# EAGLE library part MC68564 (library 68komputer)
68564 – Serial Input/Output Datasheet <http://pdf.datasheetcatalog.com/datasheet/stmicroelectronics/2337.pdf>
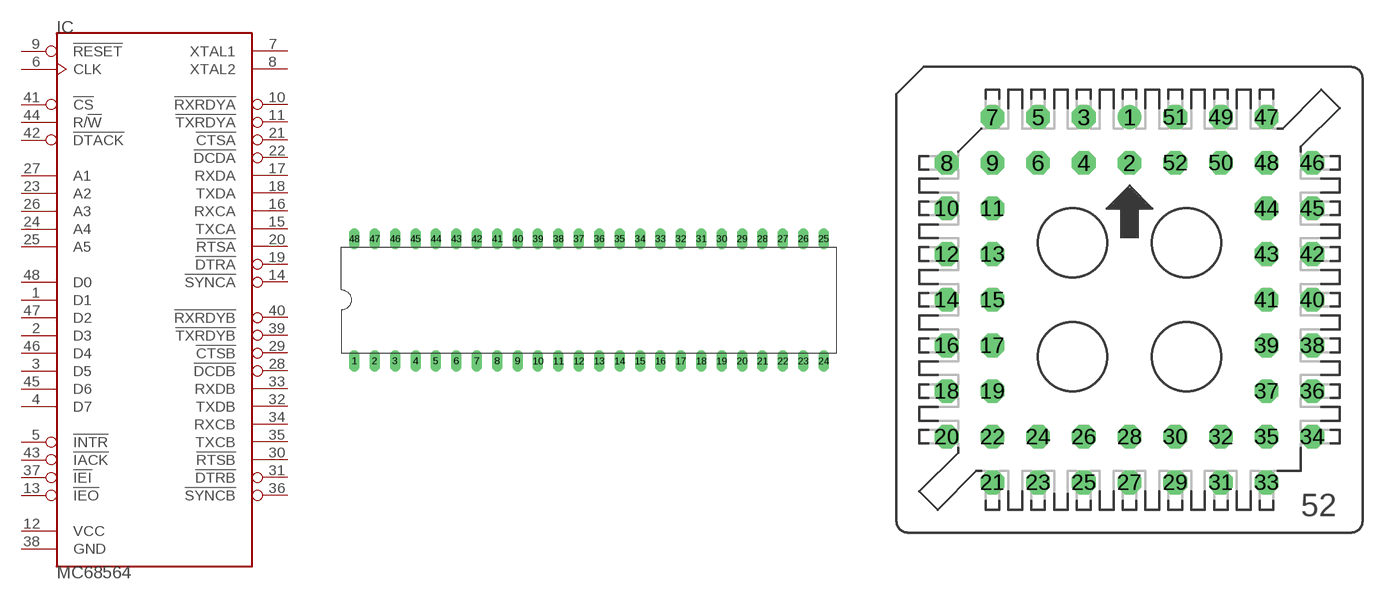
[diagram p13: symbol with the pads of DIL48; footprints DIL48, PLCC52-S]

Designator prefix IC

## MC68564DIP-48  [DIL48]
1  D1
2  D3
3  D5
4  D7
5  !INTR
6  CLK
7  XTAL1
8  XTAL2
9  !RESET
10  !RXRDYA  out
11  !TXRDYA  out
12  VCC  pwr
13  !IEO  out
14  !SYNCA
15  TXCA
16  RXCA  out
17  RXDA  in
18  TXDA  out
19  !DTRA
20  !RTSA
21  !CTSA  in
22  !DCDA  in
23  A2  in
24  A4  in
25  A5  in
26  A3  in
27  A1  in
28  !DCDB  in
29  !CTSB  in
30  !RTSB
31  !DTRB
32  TXDB  out
33  RXDB  in
34  RXCB  out
35  TXCB
36  !SYNCB
37  !IEI  in
38  GND  pwr
39  !TXRDYB  out
40  !RXRDYB  out
41  !CS  in
42  !DTACK
43  !IACK
44  R/!W!  in
45  D6
46  D4
47  D2
48  D0

## MC68564  [PLCC52-S]
1  D1
2  D3
3  D5
4  D7
6  !INTR
7  CLK
8  XTAL1
9  XTAL2
10  !RESET
11  !RXRDYA  out
12  !TXRDYA  out
13  VCC  pwr
14  !IEO  out
15  !SYNCA
16  TXCA
17  RXCA  out
18  RXDA  in
19  TXDA  out
21  !DTRA
22  !RTSA
23  !CTSA  in
24  !DCDA  in
25  A2  in
26  A4  in
28  A5  in
29  A3  in
30  A1  in
31  !DCDB  in
32  !CTSB  in
33  !RTSB
34  !DTRB
35  TXDB  out
36  RXDB  in
37  RXCB  out
38  TXCB
39  !SYNCB
40  !IEI  in
41  GND  pwr
42  !TXRDYB  out
43  !RXRDYB  out
44  !CS  in
45  !DTACK
47  !IACK
48  R/!W!  in
49  D6
50  D4
51  D2
52  D0

## Footprint DIL48 (pad centres in mm)
Dual In Line
drill 0.813 long: 1 -29.21,-7.62; 2 -26.67,-7.62; 3 -24.13,-7.62; 4 -21.59,-7.62; 5 -19.05,-7.62; 6 -16.51,-7.62; 7 -13.97,-7.62; 8 -11.43,-7.62; 9 -8.89,-7.62; 10 -6.35,-7.62; 11 -3.81,-7.62; 12 -1.27,-7.62; 13 1.27,-7.62; 14 3.81,-7.62; 15 6.35,-7.62; 16 8.89,-7.62; 17 11.43,-7.62; 18 13.97,-7.62; 19 16.51,-7.62; 20 19.05,-7.62; 21 21.59,-7.62; 22 24.13,-7.62; 23 26.67,-7.62; 24 29.21,-7.62; 25 29.21,7.62; 26 26.67,7.62; 27 24.13,7.62; 28 21.59,7.62; 29 19.05,7.62; 30 16.51,7.62; 31 13.97,7.62; 32 11.43,7.62; 33 8.89,7.62; 34 6.35,7.62; 35 3.81,7.62; 36 1.27,7.62; 37 -1.27,7.62; 38 -3.81,7.62; 39 -6.35,7.62; 40 -8.89,7.62; 41 -11.43,7.62; 42 -13.97,7.62; 43 -16.51,7.62; 44 -19.05,7.62; 45 -21.59,7.62; 46 -24.13,7.62; 47 -26.67,7.62; 48 -29.21,7.62

## Footprint PLCC52-S (pad centres in mm)
PLCC Socked
drill 0.813: 1 0,10.16
drill 0.813 octagon: 2 0,7.62; 3 -2.54,10.16; 4 -2.54,7.62; 5 -5.08,10.16; 6 -5.08,7.62; 7 -7.62,10.16; 8 -10.16,7.62; 9 -7.62,7.62; 10 -10.16,5.08; 11 -7.62,5.08; 12 -10.16,2.54; 13 -7.62,2.54; 14 -10.16,0; 15 -7.62,0; 16 -10.16,-2.54; 17 -7.62,-2.54; 18 -10.16,-5.08; 19 -7.62,-5.08; 20 -10.16,-7.62; 21 -7.62,-10.16; 22 -7.62,-7.62; 23 -5.08,-10.16; 24 -5.08,-7.62; 25 -2.54,-10.16; 26 -2.54,-7.62; 27 0,-10.16; 28 0,-7.62; 29 2.54,-10.16; 30 2.54,-7.62; 31 5.08,-10.16; 32 5.08,-7.62; 33 7.62,-10.16; 34 10.16,-7.62; 35 7.62,-7.62; 36 10.16,-5.08; 37 7.62,-5.08; 38 10.16,-2.54; 39 7.62,-2.54; 40 10.16,0; 41 7.62,0; 42 10.16,2.54; 43 7.62,2.54; 44 7.62,5.08; 45 10.16,5.08; 46 10.16,7.62; 47 7.62,10.16; 48 7.62,7.62; 49 5.08,10.16; 50 5.08,7.62; 51 2.54,10.16; 52 2.54,7.62